# EAGLE library part 1720686 (library C40-058-AE)
PCB headers, nominal current: 41 A, number of positions: 2, pitch: 7.62 mm, color: green, contact surface: Tin, mounting: Wave soldering Source: Datasheet <https://www.phoenixcontact.com/online/portal/gb/?uri=pxc-oc-itemdetail:pid=1720686&library=gben&pcck=P-11-02-11&tab=1&selectedCategory=ALL>
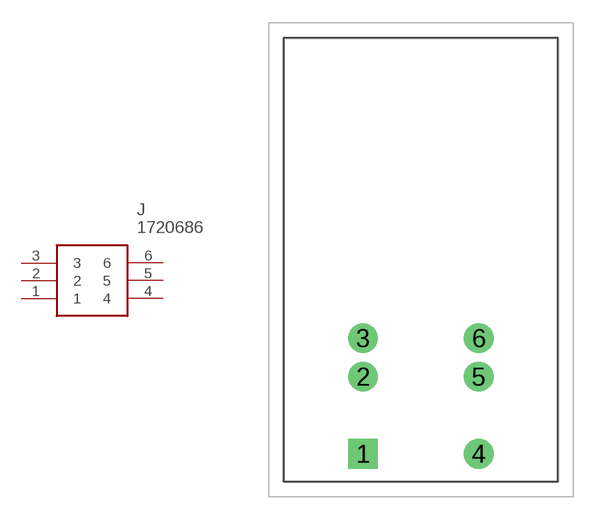
[diagram p0: symbol with the pads of 1720686; footprint 1720686]

Designator prefix J

## 1720686 (ALLIED_NUMBER: 71247917; ALLIED_PRICE-STOCK: https://www.alliedelec.com/phoenixcontact-1720686/71247917/; DESCRIPTION: PCB headers, nominal current: 41 A, number of positions: 2, pitch: 7.62 mm, color: green, contact surface: Tin, mounting: Wave soldering; HEIGHT: 14.44mm; MANUFACTURER_NAME: Phoenix Contact; MANUFACTURER_PART_NUMBER: 1720686; MOUSER_PART_NUMBER: 651-1720686; MOUSER_PRICE-STOCK: https://www.mouser.com/Search/Refine.aspx?Keyword=651-1720686)  [1720686]
1  1
2  2
3  3
4  4
5  5
6  6

## Footprint 1720686 (pad centres in mm)
1720686-2
drill 1.3 pad 1.95 square: 1 0,0
drill 1.3 pad 1.95: 2 0,5.08; 3 0,7.62; 4 7.62,0; 5 7.62,5.08; 6 7.62,7.62